# Altium footprint library SparkFun-Boards.PCBLIB: 71 footprints (part 2 of 5)
Each footprint in its own frame and in the unit in brackets; x right, y up, seen from the top. Pads: shape width x height; smd on the part's side, far side on the other; paste and mask are expansions set on the pad; w line width, h text height; cw(c..) or ccw(c..) is an arc to the next point about the centre after c.
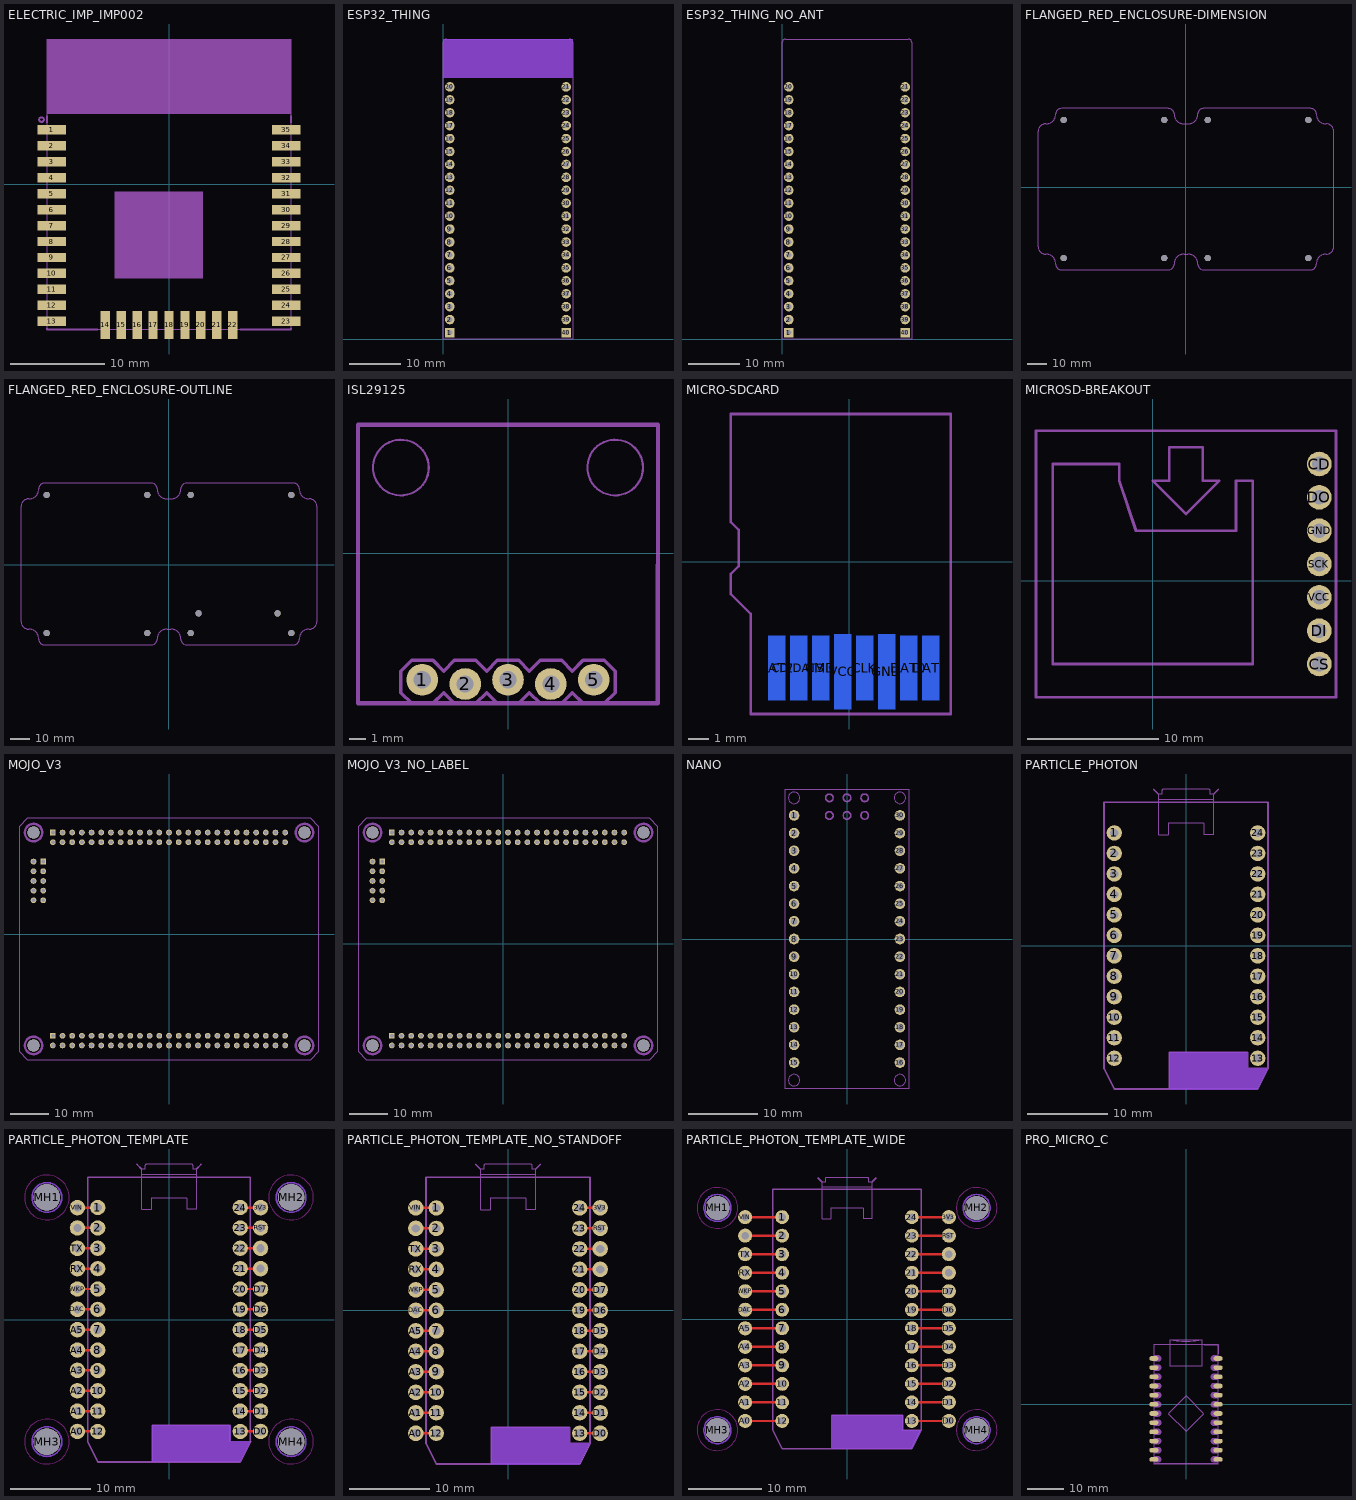
[diagram p1: the footprints below, top view; thin cyan lines are the x and y axes]

## ELECTRIC_IMP_IMP002 [mm]
pads (35):
  rect 3x1 smd: 1(-12.5,5.8) 2(-12.5,4.1) 3(-12.5,2.4) 4(-12.5,0.7) 5(-12.5,-1) 6(-12.5,-2.7) 7(-12.5,-4.4) 8(-12.5,-6.1) 9(-12.5,-7.8) 10(-12.5,-9.5) 11(-12.5,-11.2) 12(-12.5,-12.9) 13(-12.5,-14.6) 23(12.5,-14.6) 24(12.5,-12.9) 25(12.5,-11.2) 26(12.5,-9.5) 27(12.5,-7.8) 28(12.5,-6.1) 29(12.5,-4.4) 30(12.5,-2.7) 31(12.5,-1) 32(12.5,0.7) 33(12.5,2.4) 34(12.5,4.1) 35(12.5,5.8)
  rect 1x3 smd: 14(-6.8,-15) 15(-5.1,-15) 16(-3.4,-15) 17(-1.7,-15) 18(0,-15) 19(1.7,-15) 20(3.4,-15) 21(5.1,-15) 22(6.8,-15)
tDocu:
  region: -13,7.5 -13,15.5 13,15.5 13,7.5
  region: -5.8,-10 -5.8,-0.8 3.6,-0.8 3.6,-10
  lines w0.127: -13,-15.5 13,-15.5 13,15.5 -13,15.5 -13,-15.5
tPlace:
  circle w0.203: c-13.6,6.9 r0.25
  lines w0.203: -13,-15.4 -13,-15.5 -7.6,-15.5 ; -13,6.6 -13,7.3 ; 7.6,-15.5 13,-15.5 13,-15.4 ; 13,6.6 13,7.3

## ESP32_THING [mil]
pads (40):
  rect 74x74 / inner round 68.37 / far side rect 74x74 hole 40: 1(50,50) 40(950,50)
  round 74 hole 40: 2(50,150) 3(50,250) 4(50,350) 5(50,450) 6(50,550) 7(50,650) 8(50,750) 9(50,850) 10(50,950) 11(50,1050) 12(50,1150) 13(50,1250) 14(50,1350) 15(50,1450) 16(50,1550) 17(50,1650) 18(50,1750) 19(50,1850) 20(50,1950) 21(950,1950) 22(950,1850) 23(950,1750) 24(950,1650) 25(950,1550) 26(950,1450) 27(950,1350) 28(950,1250) 29(950,1150) 30(950,1050) 31(950,950) 32(950,850) 33(950,750) 34(950,650) 35(950,550) 36(950,450) 37(950,350) 38(950,250) 39(950,150)
Top keep-out:
  region: 0,2025 1000,2025 1000,2320 845,2320 0,2320
Bottom keep-out:
  region: 0,2025 1000,2025 1000,2320 845,2320 0,2320
tDocu:
  lines w5: 0,2025 1000,2025
  lines w8: 0,0 0,2025 0,2295 cw(c25,2295) 25,2320 975,2320 cw(c975,2295) 1000,2295 1000,2025 1000,0 0,0
  text "34" at 95,1350 h29.75
  text "35" at 95,1250 h29.75
  text "32" at 95,1550 h29.75
  text "33" at 95,1450 h29.75
  text "25" at 95,1150 h29.75
  text "26" at 95,1050 h29.75
  text "27" at 94,950 h29.75
  text "14" at 94,850 h29.75
  text "12" at 94,750 h29.75
  text "13" at 95,655 h29.75
  text "VBAT" at 95,255 h29.75
  text "19" at 913.5,1450 h29.75
  text "21" at 913.5,1850 h29.75
  text "22" at 914.5,1550 h29.75
  text "RX" at 915.5,1650 h29.75
  text "TX" at 913.5,1750 h29.75
  text "23" at 913.5,1350 h29.75
  text "18" at 913.5,1250 h29.75
  text "5" at 913.5,1150 h29.75
  text "15" at 913.5,1050 h29.75
  text "2" at 913.5,950 h29.75
  text "0" at 913.5,850 h29.75
  text "4" at 913.5,750 h29.75
  text "17" at 913.5,650 h29.75
  text "16" at 913.5,550 h29.75
  text "39" at 95,1650 h29.75
  text "38" at 95,1750 h29.75
  text "37" at 95,1850 h29.75
  text "36" at 95,1950 h29.75
  text "GND" at 910.5,1950 h29.75
  text "!RST!" at 95,555 h29.75
  text "3V3" at 95,455 h29.75
  text "GND" at 95,355 h29.75
  text "VUSB" at 95,155 h29.75
  text "GND" at 95,55 h29.75
  text "3V3" at 913.5,450 h29.75
  text "GND" at 913.5,350 h29.75
  text "VBAT" at 913.5,250 h29.75
  text "VUSB" at 913.5,150 h29.75
  text "GND" at 913.5,50 h29.75
  text "Antenna Keepout" at 500,2060 h29.75

## ESP32_THING_NO_ANT [mil]
pads (40):
  rect 74x74 / inner round 68.37 / far side rect 74x74 hole 40: 1(50,50) 40(950,50)
  round 74 hole 40: 2(50,150) 3(50,250) 4(50,350) 5(50,450) 6(50,550) 7(50,650) 8(50,750) 9(50,850) 10(50,950) 11(50,1050) 12(50,1150) 13(50,1250) 14(50,1350) 15(50,1450) 16(50,1550) 17(50,1650) 18(50,1750) 19(50,1850) 20(50,1950) 21(950,1950) 22(950,1850) 23(950,1750) 24(950,1650) 25(950,1550) 26(950,1450) 27(950,1350) 28(950,1250) 29(950,1150) 30(950,1050) 31(950,950) 32(950,850) 33(950,750) 34(950,650) 35(950,550) 36(950,450) 37(950,350) 38(950,250) 39(950,150)
tDocu:
  lines w8: 0,0 0,2025 0,2295 cw(c25,2295) 25,2320 975,2320 cw(c975,2295) 1000,2295 1000,2025 1000,0 0,0
  text "34" at 95,1350 h29.75
  text "35" at 95,1250 h29.75
  text "32" at 95,1550 h29.75
  text "33" at 95,1450 h29.75
  text "25" at 95,1150 h29.75
  text "26" at 95,1050 h29.75
  text "27" at 94,950 h29.75
  text "14" at 94,850 h29.75
  text "12" at 94,750 h29.75
  text "13" at 95,655 h29.75
  text "VBAT" at 95,255 h29.75
  text "19" at 913.5,1450 h29.75
  text "21" at 913.5,1850 h29.75
  text "22" at 914.5,1550 h29.75
  text "RX" at 915.5,1650 h29.75
  text "TX" at 913.5,1750 h29.75
  text "23" at 913.5,1350 h29.75
  text "18" at 913.5,1250 h29.75
  text "5" at 913.5,1150 h29.75
  text "15" at 913.5,1050 h29.75
  text "2" at 913.5,950 h29.75
  text "0" at 913.5,850 h29.75
  text "4" at 913.5,750 h29.75
  text "17" at 913.5,650 h29.75
  text "16" at 913.5,550 h29.75
  text "39" at 95,1650 h29.75
  text "38" at 95,1750 h29.75
  text "37" at 95,1850 h29.75
  text "36" at 95,1950 h29.75
  text "GND" at 910.5,1950 h29.75
  text "!RST!" at 95,555 h29.75
  text "3V3" at 95,455 h29.75
  text "GND" at 95,355 h29.75
  text "VUSB" at 95,155 h29.75
  text "GND" at 95,55 h29.75
  text "3V3" at 913.5,450 h29.75
  text "GND" at 913.5,350 h29.75
  text "VBAT" at 913.5,250 h29.75
  text "VUSB" at 913.5,150 h29.75
  text "GND" at 913.5,50 h29.75

## FLANGED_RED_ENCLOSURE-DIMENSION [mm]
pads (8):
  round 3.175 hole 3.175 unplated: MH1(-10.93,-35.91) MH2(11.07,-35.91) MH3(62.07,-35.91) MH4(-61.93,-35.91) MH5(-10.93,34.09) MH6(11.07,34.09) MH7(62.07,34.09) MH8(-61.93,34.09)
Dimension:
  lines w0.203: -74.93,-29.91 -74.93,28.09 cw(c-70.93,28.09) -70.93,32.09 ccw(c-70.93,37.09) -65.93,37.09 cw(c-63.067,37.015) -62.992,39.878 -8.89,39.878 cw(c-8.804,37.004) -5.93,37.09 ccw(c-0.93,37.09) -0.93,32.09 1.07,32.09 ccw(c1.07,37.09) 6.07,37.09 cw(c8.874,37.074) 8.89,39.878 63.246,39.878 cw(c63.264,37.072) 66.07,37.09 ccw(c71.07,37.09) 71.07,32.09 cw(c71.179,28.339) 74.93,28.448 74.93,-30.226 cw(c71.158,-30.138) 71.07,-33.91 ccw(c71.07,-38.91) 66.07,-38.91 cw(c63.07,-38.91) 63.07,-41.91 9.07,-41.91 cw(c9.07,-38.91) 6.07,-38.91 ccw(c1.07,-38.91) 1.07,-33.91 -0.93,-33.91 ccw(c-0.93,-38.91) -5.93,-38.91 cw(c-8.93,-38.91) -8.93,-41.91 -62.93,-41.91 cw(c-62.93,-38.91) -65.93,-38.91 ccw(c-70.93,-38.91) -70.93,-33.91 cw(c-70.93,-29.91) -74.93,-29.91

## FLANGED_RED_ENCLOSURE-OUTLINE [mm]
pads (10):
  round 3.175 hole 3.175 unplated: MH1(-10.93,-34.64) MH2(11.07,-34.64) MH3(62.07,-34.64) MH4(-61.93,-34.64) MH5(-10.93,35.36) MH6(11.07,35.36) MH7(62.07,35.36) MH8(-61.93,35.36) MH9(15.07,-24.64) MH10(55.07,-24.64)
tDocu:
  lines w0.203: -74.93,-28.64 -74.93,29.36 cw(c-70.93,29.36) -70.93,33.36 ccw(c-70.93,38.36) -65.93,38.36 cw(c-62.93,38.36) -62.93,41.36 -8.93,41.36 cw(c-8.93,38.36) -5.93,38.36 ccw(c-0.93,38.36) -0.93,33.36 1.07,33.36 ccw(c1.07,38.36) 6.07,38.36 cw(c9.07,38.36) 9.07,41.36 63.07,41.36 cw(c63.07,38.36) 66.07,38.36 ccw(c71.07,38.36) 71.07,33.36 cw(c71.07,29.36) 75.07,29.36 75.07,-28.64 cw(c71.07,-28.64) 71.07,-32.64 ccw(c71.07,-37.64) 66.07,-37.64 cw(c63.07,-37.64) 63.07,-40.64 9.07,-40.64 cw(c9.07,-37.64) 6.07,-37.64 ccw(c1.07,-37.64) 1.07,-32.64 -0.93,-32.64 ccw(c-0.93,-37.64) -5.93,-37.64 cw(c-8.93,-37.64) -8.93,-40.64 -62.93,-40.64 cw(c-62.93,-37.64) -65.93,-37.64 ccw(c-70.93,-37.64) -70.93,-32.64 cw(c-70.93,-28.64) -74.93,-28.64

## ISL29125 [mil]
pads (5):
  round 74 hole 40: 1(-200,-295) 2(-100,-305) 3(0,-295) 4(100,-305) 5(200,-295)
tDocu:
  circle w5: c-250,200 r65
  circle w5: c250,200 r65
  region: 190,-310 190,-290 210,-290 210,-310
  region: 90,-310 90,-290 110,-290 110,-310
  region: -10,-310 -10,-290 10,-290 10,-310
  region: -110,-310 -110,-290 -90,-290 -90,-310
  region: -210,-310 -210,-290 -190,-290 -190,-310
  lines w10: -350,-350 349.21,-350 350,300 -350,300 -350,-350
tPlace:
  lines w8: -250,-325 -250,-275 -225,-250 -175,-250 -150,-275 -125,-250 -75,-250 -50,-275 -25,-250 25,-250 50,-275 75,-250 125,-250 150,-275 175,-250 225,-250 250,-275 250,-325 225,-350 175,-350 150,-325 125,-350 75,-350 50,-325 25,-350 -25,-350 -50,-325 -75,-350 -125,-350 -150,-325 -175,-350 -225,-350 -250,-325
  text "GND" at -180,-240 h34
  text "3.3V" at -80,-240 h34
  text "SDA" at 20,-240 h34
  text "SCL" at 120,-240 h34
  text "!INT" at 220,-240 h34
  text "ISL29125 Breakout" at 310,10 h34

## MICRO-SDCARD [mm]
pads (8):
  rect 0.85x3.25 smd far side: CD/DAT3(-2.52,-5.32) CLK(0.78,-5.32) CMD(-1.42,-5.32) DAT0(2.98,-5.32) DAT1(4.08,-5.32) DAT2(-3.62,-5.32)
  rect 0.85x3.75 smd far side: GND(1.88,-5.52) VCC(-0.32,-5.52)
tPlace:
  lines w0.127: -5.92,-1.62 -5.92,-0.62 -5.52,-0.22 -5.52,1.58 -5.92,1.98 -5.92,7.38 5.08,7.38 5.08,-7.62 -4.92,-7.62 -4.92,-2.62 -5.92,-1.62

## MICROSD-BREAKOUT [mil]
pads (7):
  round 74 hole 44: CD(500,350) CS(500,-250) DI(500,-150) DO(500,250) GND(500,150) SCK(500,50) VCC(500,-50)
tPlace:
  lines w8: -350,-350 550,-350 550,450 -350,450 -350,-350 ; -300,-250 300,-250 300,300 250,300 250,150 -50,150 -100,300 -100,350 -300,350 -300,-250 ; 0,300 50,300 50,400 150,400 150,300 200,300 100,200 0,300
  text "CS" at 450,-250 h42.5
  text "CD" at 450,350 h42.5
  text "DO" at 450,250 h42.5
  text "GND" at 450,150 h42.5
  text "SCK" at 450,50 h42.5
  text "VCC" at 450,-50 h42.5
  text "DI" at 450,-150 h42.5

## MOJO_V3 [mm]
pads (114):
  round 1.508 hole 1: 1(10.16,24.13) 2(10.16,26.67) 5(7.62,24.13) 6(7.62,26.67) 7(5.08,24.13) 8(5.08,26.67) 9(2.54,24.13) 10(2.54,26.67) 11(0,24.13) 12(0,26.67) 14(-2.54,24.13) 15(-2.54,26.67) 16(-5.08,24.13) 17(-5.08,26.67) 21(-7.62,24.13) 22(-7.62,26.67) 23(-10.16,24.13) 24(-10.16,26.67) 26(-12.7,24.13) 27(-12.7,26.67) 29(-15.24,24.13) 30(-15.24,26.67) 32(-17.78,24.13) 33(-17.78,26.67) 34(-20.32,24.13) 35(-20.32,26.67) 40(-22.86,24.13) 41(-22.86,26.67) 50(-25.4,24.13) 51(-25.4,26.67) 57(-22.86,-29.21) 58(-22.86,-26.67) 66(-20.32,-29.21) 67(-20.32,-26.67) 74(-17.78,-29.21) 75(-17.78,-26.67) 78(-15.24,-29.21) 79(-15.24,-26.67) 80(-12.7,-29.21) 81(-12.7,-26.67) 82(-10.16,-29.21) 83(-10.16,-26.67) 84(-7.62,-29.21) 85(-7.62,-26.67) 87(-5.08,-29.21) 88(-5.08,-26.67) 92(-2.54,-29.21) 93(-2.54,-26.67) 94(0,-29.21) 95(0,-26.67) 97(2.54,-29.21) 98(2.54,-26.67) 99(5.08,-29.21) 100(5.08,-26.67) 101(7.62,-29.21) 102(7.62,-26.67) 104(10.16,-29.21) 105(10.16,-26.67) 111(12.7,-29.21) 112(12.7,-26.67) 114(15.24,-29.21) 115(15.24,-26.67) 116(17.78,-29.21) 117(17.78,-26.67) 118(20.32,-29.21) 119(20.32,-26.67) 120(22.86,-29.21) 121(22.86,-26.67) 123(30.48,24.13) 124(30.48,26.67) 126(27.94,24.13) 127(27.94,26.67) 131(25.4,24.13) 132(25.4,26.67) 133(22.86,24.13) 134(22.86,26.67) 137(20.32,24.13) 138(20.32,26.67) 139(17.78,24.13) 140(17.78,26.67) 141(15.24,24.13) 142(15.24,26.67) 143(12.7,24.13) 144(12.7,26.67) A0(-33.02,8.89) A1(-35.56,8.89) A4(-33.02,11.43) A5(-35.56,11.43) A6(-33.02,13.97) A7(-35.56,13.97) A8(-33.02,16.51) A9(-35.56,16.51) AREF(-35.56,19.05) DONE(-25.4,-29.21) GND@2(-27.94,26.67) GND@4(-27.94,-26.67) GND@6(30.48,-29.21) RAW@1(-30.48,24.13) RAW@2(-30.48,-29.21) RST(30.48,-26.67) SUS(-25.4,-26.67) TCK(27.94,-29.21) TDI(27.94,-26.67) TDO(25.4,-29.21) TMS(25.4,-26.67) V@1(-27.94,24.13) V@2(-27.94,-29.21)
  rect 1.508x1.508 / inner round 1.393 / far side rect 1.508x1.508 hole 1: GND@1(-30.48,26.67) GND@3(-30.48,-26.67) GND@5(-33.02,19.05)
  round 3.2 hole 3.2 unplated: MH1(-35.56,-29.21) MH2(-35.56,26.67) MH3(35.56,26.67) MH4(35.56,-29.21)
tDocu:
  lines w0.203: -39.37,-30.797 -39.37,28.258 -37.148,30.48 37.148,30.48 39.37,28.258 39.37,-30.797 37.148,-33.02 -37.148,-33.02 -39.37,-30.797
tPlace:
  circle w0.61: c-35.56,26.67 r2.29
  circle w0.61: c-35.56,-29.21 r2.29
  circle w0.61: c35.56,26.67 r2.29
  circle w0.61: c35.56,-29.21 r2.29
  text "+V" at -28.892,21.59 h0.69
  text "GND" at -28.96,28.382 h0.69
  text "51" at -26.035,28.382 h0.69
  text "50" at -26.035,21.59 h0.69
  text "41" at -23.495,28.382 h0.69
  text "40" at -23.495,21.59 h0.69
  text "35" at -20.955,28.382 h0.69
  text "34" at -20.955,21.59 h0.69
  text "33" at -18.415,28.382 h0.69
  text "32" at -18.415,21.59 h0.69
  text "30" at -15.875,28.382 h0.69
  text "29" at -15.875,21.59 h0.69
  text "27" at -13.335,28.382 h0.69
  text "26" at -13.335,21.59 h0.69
  text "24" at -10.795,28.382 h0.69
  text "23" at -10.795,21.59 h0.69
  text "22" at -8.255,28.382 h0.69
  text "21" at -8.255,21.59 h0.69
  text "17" at -5.715,28.382 h0.69
  text "16" at -5.715,21.59 h0.69
  text "15" at -3.175,28.382 h0.69
  text "14" at -3.175,21.59 h0.69
  text "12" at -0.635,28.382 h0.69
  text "11" at -0.635,21.59 h0.69
  text "10" at 1.905,28.382 h0.69
  text "9" at 2.222,21.59 h0.69
  text "8" at 4.763,28.382 h0.69
  text "7" at 4.763,21.59 h0.69
  text "6" at 7.302,28.382 h0.69
  text "5" at 7.302,21.59 h0.69
  text "2" at 9.842,28.382 h0.69
  text "1" at 9.842,21.59 h0.69
  text "144" at 11.685,28.382 h0.69
  text "143" at 11.685,21.59 h0.69
  text "142" at 14.225,28.382 h0.69
  text "141" at 14.225,21.59 h0.69
  text "140" at 16.765,28.382 h0.69
  text "139" at 16.765,21.59 h0.69
  text "138" at 19.305,28.382 h0.69
  text "137" at 19.305,21.59 h0.69
  text "GND" at -31.522,28.382 h0.69
  text "RAW" at -31.522,21.57 h0.69
  text "134" at 21.872,28.382 h0.69
  text "133" at 21.872,21.59 h0.69
  text "132" at 24.412,28.382 h0.69
  text "131" at 24.412,21.59 h0.69
  text "127" at 26.952,28.382 h0.69
  text "126" at 26.952,21.59 h0.69
  text "124" at 29.492,28.382 h0.69
  text "123" at 29.492,21.59 h0.69
  text "+V" at -28.643,-31.75 h0.69
  text "GND" at -28.988,-24.958 h0.69
  text "58" at -23.535,-24.958 h0.69
  text "57" at -23.535,-31.75 h0.69
  text "67" at -20.995,-24.958 h0.69
  text "66" at -20.995,-31.75 h0.69
  text "75" at -18.455,-24.958 h0.69
  text "74" at -18.455,-31.75 h0.69
  text "79" at -15.915,-24.958 h0.69
  text "78" at -15.915,-31.75 h0.69
  text "81" at -13.375,-24.958 h0.69
  text "80" at -13.375,-31.75 h0.69
  text "83" at -10.835,-24.958 h0.69
  text "82" at -10.835,-31.75 h0.69
  text "85" at -8.295,-24.958 h0.69
  text "84" at -8.295,-31.75 h0.69
  text "88" at -5.755,-24.958 h0.69
  text "87" at -5.755,-31.75 h0.69
  text "93" at -3.215,-24.958 h0.69
  text "92" at -3.215,-31.75 h0.69
  text "95" at -0.675,-24.958 h0.69
  text "94" at -0.675,-31.75 h0.69
  text "98" at 1.865,-24.958 h0.69
  text "97" at 1.865,-31.75 h0.69
  text "100" at 4.025,-24.958 h0.69
  text "99" at 4.342,-31.75 h0.69
  text "102" at 6.565,-24.958 h0.69
  text "101" at 6.565,-31.75 h0.69
  text "105" at 9.105,-24.958 h0.69
  text "104" at 9.105,-31.75 h0.69
  text "112" at 11.645,-24.958 h0.69
  text "111" at 11.645,-31.75 h0.69
  text "115" at 14.185,-24.958 h0.69
  text "114" at 14.185,-31.75 h0.69
  text "117" at 16.725,-24.958 h0.69
  text "116" at 16.725,-31.75 h0.69
  text "121" at 21.805,-24.958 h0.69
  text "120" at 21.805,-31.75 h0.69
  text "119" at 19.265,-24.958 h0.69
  text "118" at 19.265,-31.75 h0.69
  text "RAW" at -31.5,-31.75 h0.69
  text "TMS" at 24.412,-24.958 h0.69
  text "TDO" at 24.412,-31.75 h0.69
  text "RST" at 29.492,-24.958 h0.69
  text "GND" at 29.492,-31.75 h0.69
  text "TDI" at 26.952,-24.958 h0.69
  text "TCK" at 26.952,-31.75 h0.69
  text "SUS" at -26.41,-24.958 h0.69
  text "DONE" at -26.785,-31.75 h0.69
  text "A0" at -31.205,9.475 h0.69
  text "A9" at -38.168,17.105 h0.69
  text "A1" at -38.168,9.475 h0.69
  text "A4" at -31.205,12.185 h0.69
  text "A5" at -38.168,12.185 h0.69
  text "A6" at -31.205,14.645 h0.69
  text "A7" at -38.168,14.645 h0.69
  text "A8" at -31.205,17.105 h0.69
  text "GND" at -31.205,20.07 h0.69
  text "AREF" at -38.168,20.445 h0.69
  text "GND" at -31.496,-24.958 h0.69
bPlace:
  circle w0.61: c-35.56,26.67 r2.29
  circle w0.61: c-35.56,-29.21 r2.29
  circle w0.61: c35.56,26.67 r2.29
  circle w0.61: c35.56,-29.21 r2.29

## MOJO_V3_NO_LABEL [mm]
pads (114):
  round 1.508 hole 1: 1(11.43,26.67) 2(11.43,29.21) 5(8.89,26.67) 6(8.89,29.21) 7(6.35,26.67) 8(6.35,29.21) 9(3.81,26.67) 10(3.81,29.21) 11(1.27,26.67) 12(1.27,29.21) 14(-1.27,26.67) 15(-1.27,29.21) 16(-3.81,26.67) 17(-3.81,29.21) 21(-6.35,26.67) 22(-6.35,29.21) 23(-8.89,26.67) 24(-8.89,29.21) 26(-11.43,26.67) 27(-11.43,29.21) 29(-13.97,26.67) 30(-13.97,29.21) 32(-16.51,26.67) 33(-16.51,29.21) 34(-19.05,26.67) 35(-19.05,29.21) 40(-21.59,26.67) 41(-21.59,29.21) 50(-24.13,26.67) 51(-24.13,29.21) 57(-21.59,-26.67) 58(-21.59,-24.13) 66(-19.05,-26.67) 67(-19.05,-24.13) 74(-16.51,-26.67) 75(-16.51,-24.13) 78(-13.97,-26.67) 79(-13.97,-24.13) 80(-11.43,-26.67) 81(-11.43,-24.13) 82(-8.89,-26.67) 83(-8.89,-24.13) 84(-6.35,-26.67) 85(-6.35,-24.13) 87(-3.81,-26.67) 88(-3.81,-24.13) 92(-1.27,-26.67) 93(-1.27,-24.13) 94(1.27,-26.67) 95(1.27,-24.13) 97(3.81,-26.67) 98(3.81,-24.13) 99(6.35,-26.67) 100(6.35,-24.13) 101(8.89,-26.67) 102(8.89,-24.13) 104(11.43,-26.67) 105(11.43,-24.13) 111(13.97,-26.67) 112(13.97,-24.13) 114(16.51,-26.67) 115(16.51,-24.13) 116(19.05,-26.67) 117(19.05,-24.13) 118(21.59,-26.67) 119(21.59,-24.13) 120(24.13,-26.67) 121(24.13,-24.13) 123(31.75,26.67) 124(31.75,29.21) 126(29.21,26.67) 127(29.21,29.21) 131(26.67,26.67) 132(26.67,29.21) 133(24.13,26.67) 134(24.13,29.21) 137(21.59,26.67) 138(21.59,29.21) 139(19.05,26.67) 140(19.05,29.21) 141(16.51,26.67) 142(16.51,29.21) 143(13.97,26.67) 144(13.97,29.21) A0(-31.75,11.43) A1(-34.29,11.43) A4(-31.75,13.97) A5(-34.29,13.97) A6(-31.75,16.51) A7(-34.29,16.51) A8(-31.75,19.05) A9(-34.29,19.05) AREF(-34.29,21.59) DONE(-24.13,-26.67) GND@2(-26.67,29.21) GND@4(-26.67,-24.13) GND@6(31.75,-26.67) RAW@1(-29.21,26.67) RAW@2(-29.21,-26.67) RST(31.75,-24.13) SUS(-24.13,-24.13) TCK(29.21,-26.67) TDI(29.21,-24.13) TDO(26.67,-26.67) TMS(26.67,-24.13) V@1(-26.67,26.67) V@2(-26.67,-26.67)
  rect 1.508x1.508 / inner round 1.393 / far side rect 1.508x1.508 hole 1: GND@1(-29.21,29.21) GND@3(-29.21,-24.13) GND@5(-31.75,21.59)
  round 3.2 hole 3.2 unplated: MH1(-34.29,-26.67) MH2(-34.29,29.21) MH3(36.83,29.21) MH4(36.83,-26.67)
tDocu:
  lines w0.203: -38.1,-28.258 -38.1,30.797 -35.877,33.02 38.417,33.02 40.64,30.797 40.64,-28.258 38.417,-30.48 -35.877,-30.48 -38.1,-28.258
  text "+V" at -27.622,24.13 h0.69
  text "GND" at -27.69,30.922 h0.69
  text "51" at -24.765,30.922 h0.69
  text "50" at -24.765,24.13 h0.69
  text "41" at -22.225,30.922 h0.69
  text "40" at -22.225,24.13 h0.69
  text "35" at -19.685,30.922 h0.69
  text "34" at -19.685,24.13 h0.69
  text "33" at -17.145,30.922 h0.69
  text "32" at -17.145,24.13 h0.69
  text "30" at -14.605,30.922 h0.69
  text "29" at -14.605,24.13 h0.69
  text "27" at -12.065,30.922 h0.69
  text "26" at -12.065,24.13 h0.69
  text "24" at -9.525,30.922 h0.69
  text "23" at -9.525,24.13 h0.69
  text "22" at -6.985,30.922 h0.69
  text "21" at -6.985,24.13 h0.69
  text "17" at -4.445,30.922 h0.69
  text "16" at -4.445,24.13 h0.69
  text "15" at -1.905,30.922 h0.69
  text "14" at -1.905,24.13 h0.69
  text "12" at 0.635,30.922 h0.69
  text "11" at 0.635,24.13 h0.69
  text "10" at 3.175,30.922 h0.69
  text "9" at 3.492,24.13 h0.69
  text "8" at 6.032,30.922 h0.69
  text "7" at 6.032,24.13 h0.69
  text "6" at 8.572,30.922 h0.69
  text "5" at 8.572,24.13 h0.69
  text "2" at 11.112,30.922 h0.69
  text "1" at 11.112,24.13 h0.69
  text "144" at 12.955,30.922 h0.69
  text "143" at 12.955,24.13 h0.69
  text "142" at 15.495,30.922 h0.69
  text "141" at 15.495,24.13 h0.69
  text "140" at 18.035,30.922 h0.69
  text "139" at 18.035,24.13 h0.69
  text "138" at 20.575,30.922 h0.69
  text "137" at 20.575,24.13 h0.69
  text "GND" at -30.252,30.922 h0.69
  text "RAW" at -30.252,24.11 h0.69
  text "134" at 23.142,30.922 h0.69
  text "133" at 23.142,24.13 h0.69
  text "132" at 25.682,30.922 h0.69
  text "131" at 25.682,24.13 h0.69
  text "127" at 28.222,30.922 h0.69
  text "126" at 28.222,24.13 h0.69
  text "124" at 30.762,30.922 h0.69
  text "123" at 30.762,24.13 h0.69
  text "+V" at -27.373,-29.21 h0.69
  text "GND" at -27.718,-22.418 h0.69
  text "58" at -22.265,-22.418 h0.69
  text "57" at -22.265,-29.21 h0.69
  text "67" at -19.725,-22.418 h0.69
  text "66" at -19.725,-29.21 h0.69
  text "75" at -17.185,-22.418 h0.69
  text "74" at -17.185,-29.21 h0.69
  text "79" at -14.645,-22.418 h0.69
  text "78" at -14.645,-29.21 h0.69
  text "81" at -12.105,-22.418 h0.69
  text "80" at -12.105,-29.21 h0.69
  text "83" at -9.565,-22.418 h0.69
  text "82" at -9.565,-29.21 h0.69
  text "85" at -7.025,-22.418 h0.69
  text "84" at -7.025,-29.21 h0.69
  text "88" at -4.485,-22.418 h0.69
  text "87" at -4.485,-29.21 h0.69
  text "93" at -1.945,-22.418 h0.69
  text "92" at -1.945,-29.21 h0.69
  text "95" at 0.595,-22.418 h0.69
  text "94" at 0.595,-29.21 h0.69
  text "98" at 3.135,-22.418 h0.69
  text "97" at 3.135,-29.21 h0.69
  text "100" at 5.295,-22.418 h0.69
  text "99" at 5.612,-29.21 h0.69
  text "102" at 7.835,-22.418 h0.69
  text "101" at 7.835,-29.21 h0.69
  text "105" at 10.375,-22.418 h0.69
  text "104" at 10.375,-29.21 h0.69
  text "112" at 12.915,-22.418 h0.69
  text "111" at 12.915,-29.21 h0.69
  text "115" at 15.455,-22.418 h0.69
  text "114" at 15.455,-29.21 h0.69
  text "117" at 17.995,-22.418 h0.69
  text "116" at 17.995,-29.21 h0.69
  text "121" at 23.075,-22.418 h0.69
  text "120" at 23.075,-29.21 h0.69
  text "119" at 20.535,-22.418 h0.69
  text "118" at 20.535,-29.21 h0.69
  text "RAW" at -30.23,-29.21 h0.69
  text "TMS" at 25.682,-22.418 h0.69
  text "TDO" at 25.682,-29.21 h0.69
  text "RST" at 30.762,-22.418 h0.69
  text "GND" at 30.762,-29.21 h0.69
  text "TDI" at 28.222,-22.418 h0.69
  text "TCK" at 28.222,-29.21 h0.69
  text "SUS" at -25.14,-22.418 h0.69
  text "DONE" at -25.515,-29.21 h0.69
  text "A0" at -29.935,12.015 h0.69
  text "A9" at -36.898,19.645 h0.69
  text "A1" at -36.898,12.015 h0.69
  text "A4" at -29.935,14.725 h0.69
  text "A5" at -36.898,14.725 h0.69
  text "A6" at -29.935,17.185 h0.69
  text "A7" at -36.898,17.185 h0.69
  text "A8" at -29.935,19.645 h0.69
  text "GND" at -29.935,22.61 h0.69
  text "AREF" at -36.898,22.985 h0.69
  text "GND" at -30.226,-22.418 h0.69
tPlace:
  circle w0.61: c-34.29,29.21 r2.29
  circle w0.61: c36.83,29.21 r2.29
  circle w0.61: c-34.29,-26.67 r2.29
  circle w0.61: c36.83,-26.67 r2.29
bPlace:
  circle w0.61: c-34.29,29.21 r2.29
  circle w0.61: c36.83,29.21 r2.29
  circle w0.61: c-34.29,-26.67 r2.29
  circle w0.61: c36.83,-26.67 r2.29

## NANO [mil]
pads (30):
  round 60 hole 40: 1(-300,700) 2(-300,600) 3(-300,500) 4(-300,400) 5(-300,300) 6(-300,200) 7(-300,100) 8(-300,0) 9(-300,-100) 10(-300,-200) 11(-300,-300) 12(-300,-400) 13(-300,-500) 14(-300,-600) 15(-300,-700) 16(300,-700) 17(300,-600) 18(300,-500) 19(300,-400) 20(300,-300) 21(300,-200) 22(300,-100) 23(300,0) 24(300,100) 25(300,200) 26(300,300) 27(300,400) 28(300,500) 29(300,600) 30(300,700)
tDocu:
  circle w5: c-300,-800 r32.5
  circle w5: c300,-800 r32.5
  circle w5: c300,800 r32.5
  circle w5: c-300,800 r32.5
  circle w8: c0,800 r21.21
  circle w8: c0,700 r21.21
  circle w8: c-100,700 r21.21
  circle w8: c-100,800 r21.21
  circle w8: c100,800 r21.21
  circle w8: c100,700 r21.21
  lines w5: -350,-850 350,-850 350,850 -350,850 -350,-850

## PARTICLE_PHOTON [mil]
pads (24):
  round 75 hole 40: 1(-350,550) 2(-350,450) 3(-350,350) 4(-350,250) 5(-350,150) 6(-350,50) 7(-350,-50) 8(-350,-150) 9(-350,-250) 10(-350,-350) 11(-350,-450) 12(-350,-550) 13(350,-550) 14(350,-450) 15(350,-350) 16(350,-250) 17(350,-150) 18(350,-50) 19(350,50) 20(350,150) 21(350,250) 22(350,350) 23(350,450) 24(350,550)
Top keep-out:
  region: 350,-700 400,-600 300,-600 300,-520 -82,-520 -82,-700
Bottom keep-out:
  region: 350,-700 400,-600 300,-600 300,-520 -82,-520 -82,-700
tDocu:
  lines w5: -133.86,711.02 -133.86,541.73 -86.61,541.73 -86.61,596.85 86.61,596.85 86.61,541.73 133.86,541.73 133.86,711.02 ; -133.86,711.02 -133.86,738.58 -118.11,738.58 -118.11,756.3 cw(c-108.86,754.82) -108.27,764.17 110.24,764.17 cw(c108.76,754.92) 118.11,754.33 118.11,738.58 133.86,738.58 133.86,711.02 ; -133.86,711.02 133.86,711.02
  lines w8: -157.48,762.2 -133.86,738.58 ; 133.86,738.58 157.48,762.2 ; -82,-700 -82,-520 300,-520 300,-600 400,-600 350,-700 -82,-700
  text "Keepout'" at 150,-600 h34
  text "A0" at -270,-576 h27.2
  text "A1" at -270,-466 h27.2
  text "A2" at -270,-376 h27.2
  text "RX" at -270,223 h27.2
  text "A4" at -270,-176 h27.2
  text "A3" at -270,-274 h27.2
  text "A5" at -270,-76 h27.2
  text "DAC" at -269,1 h27.2
  text "WKP" at -270,114 h27.2
  text "D0" at 269,-524 h27.2
  text "D1" at 269,-427 h27.2
  text "D2" at 269,-324 h27.2
  text "D3" at 269,-224 h27.2
  text "D4" at 269,-123 h27.2
  text "D5" at 269,-24 h27.2
  text "D6" at 269,76 h27.2
  text "D7" at 269,176 h27.2
  text "GND" at 268,284 h27.2
  text "VBAT" at 269,404 h25.5
  text "RST" at 268,495 h27.2
  text "3V3" at 269,592 h27.2
  text "TX" at -270,325 h27.2
  text "GND" at -270,409 h27.2
  text "VIN" at -270,513 h27.2
tPlace:
  lines w8: -400,-600 -350,-700 350,-700 400,-600 400,700 -400,700 -400,-600

## PARTICLE_PHOTON_TEMPLATE [mil]
pads (52):
  round 75 hole 40: 1(-350,550) 2(-350,450) 3(-350,350) 4(-350,250) 5(-350,150) 6(-350,50) 7(-350,-50) 8(-350,-150) 9(-350,-250) 10(-350,-350) 11(-350,-450) 12(-350,-550) 13(350,-550) 14(350,-450) 15(350,-350) 16(350,-250) 17(350,-150) 18(350,-50) 19(350,50) 20(350,150) 21(350,250) 22(350,350) 23(350,450) 24(350,550)
  round 76 hole 40: 3V3(450,550) A0(-450,-550) A1(-450,-450) A2(-450,-350) A3(-450,-250) A4(-450,-150) A5(-450,-50) D0(450,-550) D1(450,-450) D2(450,-350) D3(450,-250) D4(450,-150) D5(450,-50) D6(450,50) D7(450,150) DAC(-450,50) GND@0(-450,450) GND@2(450,250) RST(450,450) RX(-450,250) TX(-450,350) VBAT(450,350) VIN(-450,550) WKP(-450,150)
  round 130 hole 130 unplated: MH1(-600,600) MH2(600,600) MH3(-600,-600) MH4(600,-600)
Top:
  lines w12: -450,-550 -350,-550 ; -450,-450 -350,-450 ; -450,-350 -350,-350 ; -450,-250 -350,-250 ; -450,-150 -350,-150 ; -450,-50 -350,-50 ; -450,50 -350,50 ; -450,150 -350,150 ; -450,250 -350,250 ; -450,350 -350,350 ; -450,450 -350,450 ; -450,550 -350,550 ; 350,-550 450,-550 ; 350,-450 450,-450 ; 350,-350 450,-350 ; 350,-250 450,-250 ; 350,-150 450,-150 ; 350,-50 450,-50 ; 350,50 450,50 ; 350,150 450,150 ; 350,250 450,250 ; 350,350 450,350 ; 350,450 450,450 ; 350,550 450,550
Top keep-out:
  circle w5: c-600,600 r110
  circle w5: c600,600 r110
  circle w5: c-600,-600 r110
  circle w5: c600,-600 r110
  region: 350,-700 400,-600 300,-600 300,-520 -82,-520 -82,-700
  lines w8: -600,-673 ccw(c-600,-600) -600,-527 ccw(c-600,-600) -600,-673 ; -600,527 ccw(c-600,600) -600,673 ccw(c-600,600) -600,527 ; 600,-673 ccw(c600,-600) 600,-527 ccw(c600,-600) 600,-673 ; 600,527 ccw(c600,600) 600,673 ccw(c600,600) 600,527
Bottom keep-out:
  region: 350,-700 400,-600 300,-600 300,-520 -82,-520 -82,-700
  lines w8: -600,-673 ccw(c-600,-600) -600,-527 ccw(c-600,-600) -600,-673 ; -600,527 ccw(c-600,600) -600,673 ccw(c-600,600) -600,527 ; 600,-673 ccw(c600,-600) 600,-527 ccw(c600,-600) 600,-673 ; 600,527 ccw(c600,600) 600,673 ccw(c600,600) 600,527
tDocu:
  lines w5: -133.86,711.02 -133.86,541.73 -86.61,541.73 -86.61,596.85 86.61,596.85 86.61,541.73 133.86,541.73 133.86,711.02 ; -133.86,711.02 -133.86,738.58 -118.11,738.58 -118.11,756.3 cw(c-108.86,754.82) -108.27,764.17 110.24,764.17 cw(c108.76,754.92) 118.11,754.33 118.11,738.58 133.86,738.58 133.86,711.02 ; -133.86,711.02 133.86,711.02
  lines w8: -157.48,762.2 -133.86,738.58 ; 133.86,738.58 157.48,762.2 ; -82,-700 -82,-520 300,-520 300,-600 400,-600 350,-700 -82,-700
  text "Keepout'" at 150,-600 h34
  text "A0" at -270,-576 h27.2
  text "A1" at -270,-466 h27.2
  text "A2" at -270,-376 h27.2
  text "RX" at -270,223 h27.2
  text "A4" at -270,-176 h27.2
  text "A3" at -270,-274 h27.2
  text "A5" at -270,-76 h27.2
  text "DAC" at -269,1 h27.2
  text "WKP" at -270,114 h27.2
  text "D0" at 269,-524 h27.2
  text "D1" at 269,-427 h27.2
  text "D2" at 269,-324 h27.2
  text "D3" at 269,-224 h27.2
  text "D4" at 269,-123 h27.2
  text "D5" at 269,-24 h27.2
  text "D6" at 269,76 h27.2
  text "D7" at 269,176 h27.2
  text "GND" at 268,284 h27.2
  text "VBAT" at 269,404 h25.5
  text "RST" at 268,495 h27.2
  text "3V3" at 269,592 h27.2
  text "TX" at -270,325 h27.2
  text "GND" at -270,409 h27.2
  text "VIN" at -270,513 h27.2
tPlace:
  lines w8: 350,-700 -350,-700 -400,-600 -400,700 400,700 400,-600 400,-520
  lines w10: 350,-700 400,-600
  text "GND" at -490,450 h34
  text "TX" at -490,350 h34
  text "RX" at -490,250 h34
  text "WKP" at -490,150 h34
  text "DAC" at -490,50 h34
  text "A5" at -490,-50 h34
  text "A4" at -490,-150 h34
  text "A3" at -490,-250 h34
  text "A2" at -490,-350 h34
  text "A1" at -490,-450 h34
  text "D1" at 500,-450 h34
  text "D2" at 500,-350 h34
  text "D3" at 500,-250 h34
  text "D4" at 500,-150 h34
  text "D5" at 500,-50 h34
  text "D6" at 500,50 h34
  text "D7" at 500,150 h34
  text "GND" at 500,250 h34
  text "VBAT" at 500,350 h34
  text "RST" at 500,450 h34
  text "3V3" at 450,600 h32.3
  text "VIN" at -450,600 h32.3
  text "A0" at -450,-590 h34
  text "D0" at 450,-590 h34
bPlace:
  text "VIN" at -450,600 h32.3
  text "GND" at -500,450 h34
  text "TX" at -500,350 h34
  text "RX" at -500,250 h34
  text "WKP" at -500,150 h34
  text "DAC" at -500,50 h34
  text "A5" at -500,-50 h34
  text "A4" at -500,-150 h34
  text "A3" at -500,-250 h34
  text "A2" at -500,-350 h34
  text "A1" at -500,-450 h34
  text "D1" at 490,-450 h34
  text "D2" at 490,-350 h34
  text "D3" at 490,-250 h34
  text "D4" at 490,-150 h34
  text "D5" at 490,-50 h34
  text "D6" at 490,50 h34
  text "D7" at 490,150 h34
  text "GND" at 490,250 h34
  text "VBAT" at 490,350 h34
  text "RST" at 490,450 h34
  text "3V3" at 450,600 h32.3
  text "A0" at -450,-590 h34
  text "D0" at 450,-590 h34

## PARTICLE_PHOTON_TEMPLATE_NO_STANDOFF [mil]
pads (48):
  round 75 hole 40: 1(-350,500) 2(-350,400) 3(-350,300) 4(-350,200) 5(-350,100) 6(-350,0) 7(-350,-100) 8(-350,-200) 9(-350,-300) 10(-350,-400) 11(-350,-500) 12(-350,-600) 13(350,-600) 14(350,-500) 15(350,-400) 16(350,-300) 17(350,-200) 18(350,-100) 19(350,0) 20(350,100) 21(350,200) 22(350,300) 23(350,400) 24(350,500)
  round 76 hole 40: 3V3(450,500) A0(-450,-600) A1(-450,-500) A2(-450,-400) A3(-450,-300) A4(-450,-200) A5(-450,-100) D0(450,-600) D1(450,-500) D2(450,-400) D3(450,-300) D4(450,-200) D5(450,-100) D6(450,0) D7(450,100) DAC(-450,0) GND@0(-450,400) GND@2(450,200) RST(450,400) RX(-450,200) TX(-450,300) VBAT(450,300) VIN(-450,500) WKP(-450,100)
Top:
  lines w12: -450,-600 -350,-600 ; -450,-500 -350,-500 ; -450,-400 -350,-400 ; -450,-300 -350,-300 ; -450,-200 -350,-200 ; -450,-100 -350,-100 ; -450,0 -350,0 ; -450,100 -350,100 ; -450,200 -350,200 ; -450,300 -350,300 ; -450,400 -350,400 ; -450,500 -350,500 ; 350,-600 450,-600 ; 350,-500 450,-500 ; 350,-400 450,-400 ; 350,-300 450,-300 ; 350,-200 450,-200 ; 350,-100 450,-100 ; 350,0 450,0 ; 350,100 450,100 ; 350,200 450,200 ; 350,300 450,300 ; 350,400 450,400 ; 350,500 450,500
Top keep-out:
  region: 350,-750 400,-650 300,-650 300,-570 -82,-570 -82,-750
Bottom keep-out:
  region: 350,-750 400,-650 300,-650 300,-570 -82,-570 -82,-750
tDocu:
  lines w5: -133.86,661.02 -133.86,491.73 -86.61,491.73 -86.61,546.85 86.61,546.85 86.61,491.73 133.86,491.73 133.86,661.02 ; -133.86,661.02 -133.86,688.58 -118.11,688.58 -118.11,706.3 cw(c-108.86,704.82) -108.27,714.17 110.24,714.17 cw(c108.76,704.92) 118.11,704.33 118.11,688.58 133.86,688.58 133.86,661.02 ; -133.86,661.02 133.86,661.02
  lines w8: -157.48,712.2 -133.86,688.58 ; 133.86,688.58 157.48,712.2 ; -82,-750 -82,-570 300,-570 300,-650 400,-650 350,-750 -82,-750
  text "Keepout'" at 150,-650 h34
  text "A0" at -270,-626 h27.2
  text "A1" at -270,-516 h27.2
  text "A2" at -270,-426 h27.2
  text "RX" at -270,173 h27.2
  text "A4" at -270,-226 h27.2
  text "A3" at -270,-324 h27.2
  text "A5" at -270,-126 h27.2
  text "DAC" at -269,-49 h27.2
  text "WKP" at -270,64 h27.2
  text "D0" at 269,-574 h27.2
  text "D1" at 269,-477 h27.2
  text "D2" at 269,-374 h27.2
  text "D3" at 269,-274 h27.2
  text "D4" at 269,-173 h27.2
  text "D5" at 269,-74 h27.2
  text "D6" at 269,26 h27.2
  text "D7" at 269,126 h27.2
  text "GND" at 268,234 h27.2
  text "VBAT" at 269,354 h25.5
  text "RST" at 268,445 h27.2
  text "3V3" at 269,542 h27.2
  text "TX" at -270,275 h27.2
  text "GND" at -270,359 h27.2
  text "VIN" at -270,463 h27.2
tPlace:
  lines w8: 350,-750 -350,-750 -400,-650 -400,650 400,650 400,-650
  lines w10: 350,-750 400,-650
  text "GND" at -490,400 h34
  text "TX" at -490,300 h34
  text "RX" at -490,200 h34
  text "WKP" at -490,100 h34
  text "DAC" at -490,0 h34
  text "A5" at -490,-100 h34
  text "A4" at -490,-200 h34
  text "A3" at -490,-300 h34
  text "A2" at -490,-400 h34
  text "A1" at -490,-500 h34
  text "D1" at 500,-500 h34
  text "D2" at 500,-400 h34
  text "D3" at 500,-300 h34
  text "D4" at 500,-200 h34
  text "D5" at 500,-100 h34
  text "D6" at 500,0 h34
  text "D7" at 500,100 h34
  text "GND" at 500,200 h34
  text "VBT" at 500,300 h34
  text "RST" at 500,400 h34
  text "3V3" at 500,500 h32.3
  text "VIN" at -492,500 h32.3
  text "A0" at -490,-600 h34
  text "D0" at 498,-600 h34
bPlace:
  text "VIN" at -500,500 h32.3
  text "GND" at -500,400 h34
  text "TX" at -500,300 h34
  text "RX" at -500,200 h34
  text "WKP" at -500,100 h34
  text "DAC" at -500,0 h34
  text "A5" at -500,-100 h34
  text "A4" at -500,-200 h34
  text "A3" at -500,-300 h34
  text "A2" at -500,-400 h34
  text "A1" at -500,-500 h34
  text "D1" at 490,-500 h34
  text "D2" at 490,-400 h34
  text "D3" at 490,-300 h34
  text "D4" at 490,-200 h34
  text "D5" at 490,-100 h34
  text "D6" at 490,0 h34
  text "D7" at 490,100 h34
  text "GND" at 490,200 h34
  text "VBT" at 490,300 h34
  text "RST" at 490,400 h34
  text "3V3" at 492,500 h32.3
  text "A0" at -498,-600 h34
  text "D0" at 490,-600 h34

## PARTICLE_PHOTON_TEMPLATE_WIDE [mil]
pads (52):
  round 75 hole 40: 1(-350,550) 2(-350,450) 3(-350,350) 4(-350,250) 5(-350,150) 6(-350,50) 7(-350,-50) 8(-350,-150) 9(-350,-250) 10(-350,-350) 11(-350,-450) 12(-350,-550) 13(350,-550) 14(350,-450) 15(350,-350) 16(350,-250) 17(350,-150) 18(350,-50) 19(350,50) 20(350,150) 21(350,250) 22(350,350) 23(350,450) 24(350,550)
  round 76 hole 40: 3V3(550,550) A0(-550,-550) A1(-550,-450) A2(-550,-350) A3(-550,-250) A4(-550,-150) A5(-550,-50) D0(550,-550) D1(550,-450) D2(550,-350) D3(550,-250) D4(550,-150) D5(550,-50) D6(550,50) D7(550,150) DAC(-550,50) GND@0(-550,450) GND@2(550,250) RST(550,450) RX(-550,250) TX(-550,350) VBAT(550,350) VIN(-550,550) WKP(-550,150)
  round 130 hole 130 unplated: MH1(-700,600) MH2(700,600) MH3(-700,-600) MH4(700,-600)
Top:
  lines w12: -550,-550 -350,-550 ; -550,-450 -350,-450 ; -550,-350 -350,-350 ; -550,-250 -350,-250 ; -550,-150 -350,-150 ; -550,-50 -350,-50 ; -550,50 -350,50 ; -550,150 -350,150 ; -550,250 -350,250 ; -550,350 -350,350 ; -550,450 -350,450 ; -550,550 -350,550 ; 350,-550 550,-550 ; 350,-450 550,-450 ; 350,-350 550,-350 ; 350,-250 550,-250 ; 350,-150 550,-150 ; 350,-50 550,-50 ; 350,50 550,50 ; 350,150 550,150 ; 350,250 550,250 ; 350,350 550,350 ; 350,450 550,450 ; 350,550 550,550
Top keep-out:
  circle w5: c-700,600 r110
  circle w5: c700,600 r110
  circle w5: c-700,-600 r110
  circle w5: c700,-600 r110
  region: 350,-700 400,-600 300,-600 300,-520 -82,-520 -82,-700
  lines w8: -700,-673 ccw(c-700,-600) -700,-527 ccw(c-700,-600) -700,-673 ; -700,527 ccw(c-700,600) -700,673 ccw(c-700,600) -700,527 ; 700,-673 ccw(c700,-600) 700,-527 ccw(c700,-600) 700,-673 ; 700,527 ccw(c700,600) 700,673 ccw(c700,600) 700,527
Bottom keep-out:
  region: 350,-700 400,-600 300,-600 300,-520 -82,-520 -82,-700
  lines w8: -700,-673 ccw(c-700,-600) -700,-527 ccw(c-700,-600) -700,-673 ; -700,527 ccw(c-700,600) -700,673 ccw(c-700,600) -700,527 ; 700,-673 ccw(c700,-600) 700,-527 ccw(c700,-600) 700,-673 ; 700,527 ccw(c700,600) 700,673 ccw(c700,600) 700,527
tDocu:
  lines w5: -133.86,711.02 -133.86,541.73 -86.61,541.73 -86.61,596.85 86.61,596.85 86.61,541.73 133.86,541.73 133.86,711.02 ; -133.86,711.02 -133.86,738.58 -118.11,738.58 -118.11,756.3 cw(c-108.86,754.82) -108.27,764.17 110.24,764.17 cw(c108.76,754.92) 118.11,754.33 118.11,738.58 133.86,738.58 133.86,711.02 ; -133.86,711.02 133.86,711.02
  lines w8: -157.48,762.2 -133.86,738.58 ; 133.86,738.58 157.48,762.2 ; -82,-700 -82,-520 300,-520 300,-600 400,-600 350,-700 -82,-700
  text "Keepout'" at 150,-600 h34
  text "A0" at -270,-576 h27.2
  text "A1" at -270,-466 h27.2
  text "A2" at -270,-376 h27.2
  text "RX" at -270,223 h27.2
  text "A4" at -270,-176 h27.2
  text "A3" at -270,-274 h27.2
  text "A5" at -270,-76 h27.2
  text "DAC" at -269,1 h27.2
  text "WKP" at -270,114 h27.2
  text "D0" at 269,-524 h27.2
  text "D1" at 269,-427 h27.2
  text "D2" at 269,-324 h27.2
  text "D3" at 269,-224 h27.2
  text "D4" at 269,-123 h27.2
  text "D5" at 269,-24 h27.2
  text "D6" at 269,76 h27.2
  text "D7" at 269,176 h27.2
  text "GND" at 268,284 h27.2
  text "VBAT" at 269,404 h25.5
  text "RST" at 268,495 h27.2
  text "3V3" at 269,592 h27.2
  text "TX" at -270,325 h27.2
  text "GND" at -270,409 h27.2
  text "VIN" at -270,513 h27.2
tPlace:
  lines w5: -133.86,700 -133.86,541.73 -86.61,541.73 -86.61,596.85 86.61,596.85 86.61,541.73 133.86,541.73 133.86,700
  lines w8: 350,-700 -350,-700 -400,-600 -400,700 -133.86,700 133.86,700 400,700 400,-600 400,-520
  lines w10: 350,-700 400,-600
  text "GND" at -452.5,450 h32.3
  text "TX" at -452.5,350 h34
  text "RX" at -452.5,250 h34
  text "WKP" at -452.5,150 h32.3
  text "DAC" at -452.5,50 h32.3
  text "A5" at -452.5,-50 h34
  text "A4" at -452.5,-150 h34
  text "A3" at -452.5,-250 h34
  text "A2" at -452.5,-350 h34
  text "A1" at -452.5,-450 h34
  text "D1" at 465,-450 h34
  text "D2" at 465,-350 h34
  text "D3" at 465,-250 h34
  text "D4" at 465,-150 h34
  text "D5" at 465,-50 h34
  text "D6" at 465,50 h34
  text "D7" at 465,150 h34
  text "GND" at 460,250 h32.3
  text "VBT" at 465,350 h32.3
  text "RST" at 465,450 h32.3
  text "A0" at -452.5,-550 h34
  text "VIN" at -452.5,550 h32.3
  text "3V3" at 465,550 h32.3
  text "D0" at 465,-550 h34
bPlace:
  text "GND" at -455,450 h32.3
  text "TX" at -455,350 h34
  text "RX" at -455,250 h34
  text "WKP" at -455,150 h34
  text "DAC" at -455,50 h34
  text "A5" at -455,-50 h34
  text "A4" at -455,-150 h34
  text "A3" at -455,-250 h34
  text "A2" at -455,-350 h34
  text "A1" at -455,-450 h34
  text "D1" at 455,-450 h34
  text "D2" at 455,-350 h34
  text "D3" at 455,-250 h34
  text "D4" at 455,-150 h34
  text "D5" at 455,-50 h34
  text "D6" at 455,50 h34
  text "D7" at 455,150 h34
  text "GND" at 455,250 h32.3
  text "VBAT" at 450,350 h27.2
  text "RST" at 455,450 h34
  text "A0" at -455,-550 h34
  text "VIN" at -455,550 h34
  text "3V3" at 455,550 h34
  text "D0" at 455,-550 h34

## PRO_MICRO_C [mil]
pads (24):
  rrect100% 100x50 smd: 1(-350,500) 2(-350,400) 3(-350,300) 4(-350,200) 5(-350,100) 6(-350,0) 7(-350,-100) 8(-350,-200) 9(-350,-300) 10(-350,-400) 11(-350,-500) 12(-350,-600) 13(350,-600) 14(350,-500) 15(350,-400) 16(350,-300) 17(350,-200) 18(350,-100) 19(350,0) 20(350,100) 21(350,200) 22(350,300) 23(350,400) 24(350,500)
tDocu:
  lines w6: -350,-650 -350,650 350,650 350,-650 -350,-650
tPlace:
  lines w8: -350,-650 350,-650 ; -350,550 -350,650 -200,650 ; 200,650 350,650 350,550 ; -170,702.5 -170,415 170,415 170,702.5 ; -170,702.5 ccw(c0,1653.12) 170,702.5 ; -170,702.5 170,702.5 ; -195,-100 0,95 195,-100 0,-295 -195,-100
Reference:
  drawing of 24 lines, arcs and shapes, not listed